# Altium schematic symbol library SMD General purpose rectifiers.SchLib: 4 symbols
Pins are listed as number, name and electrical type; pins without a type are passive.

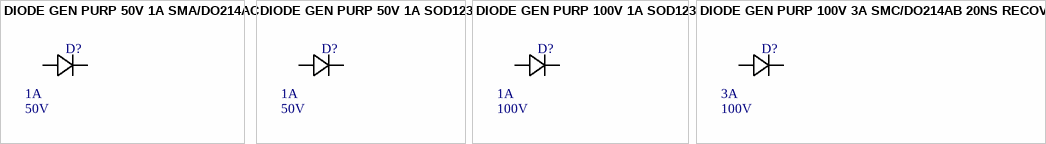
[diagram p0: symbols DIODE GEN PURP 50V 1A SMA/DO214AC to DIODE GEN PURP 100V 3A SMC/DO214AB 20NS RECOVERY]

## DIODE GEN PURP 50V 1A SMA/DO214AC
designator D?  Forward Current: 1A  Reverse Voltage: 50V  (hidden comment: DIODE GEN PURP 50V 1A SMA/DO214AC)
Supplier 1: Digi-Key; Supplier 2: Digi-Key; Supplier 3: Digi-Key; Supplier 4: Digi-Key; Supplier 5: Digi-Key; Supplier 6: Digi-Key; Supplier 7: Digi-Key; Supplier Part Number 1: S1AFSCT-ND; Supplier Part Number 2: S1A-E3/61TGIDKR-ND; Supplier Part Number 3: S1A-FDIDKR-ND; Supplier Part Number 4: S1AFSDKR-ND; Supplier Part Number 5: GS1A-LTPMSDKR-ND; Supplier Part Number 6: 1655-1502-1-ND; Supplier Part Number 7: S1A-E3/5ATGIDKR-ND
footprint LC-SMA(DO-214AC)_S2
pins: A, K

## DIODE GEN PURP 50V 1A SOD123
designator D?  Forward Current: 1A  Reverse Voltage: 50V  (hidden comment: DIODE GEN PURP 50V 1A SOD123)
footprint SOD123
pins: A, K

## DIODE GEN PURP 100V 1A SOD123
designator D?  Forward Current: 1A  Reverse Voltage: 100V  (hidden comment: DIODE GEN PURP 100V 1A SOD123)
footprint SOD123
pins: A, K

## DIODE GEN PURP 100V 3A SMC/DO214AB 20NS RECOVERY
designator D?, comment Forward Current: 3A  Reverse Voltage: 100V  (hidden comment: ES3B)
DIODE GEN PURP 100V 3A SMC/DO214AB 20NS RECOVERY; Trecovery: 20ns
footprint LC-SMC(DO-214AB)_S2
pins: A, K